# Altium footprint library DFN65P200X200X80_HS-6N.PcbLib: 1 footprints
Each footprint in its own frame and in the unit in brackets; x right, y up, seen from the top. Pads: shape width x height; smd on the part's side, far side on the other; paste and mask are expansions set on the pad; w line width, h text height; cw(c..) or ccw(c..) is an arc to the next point about the centre after c.
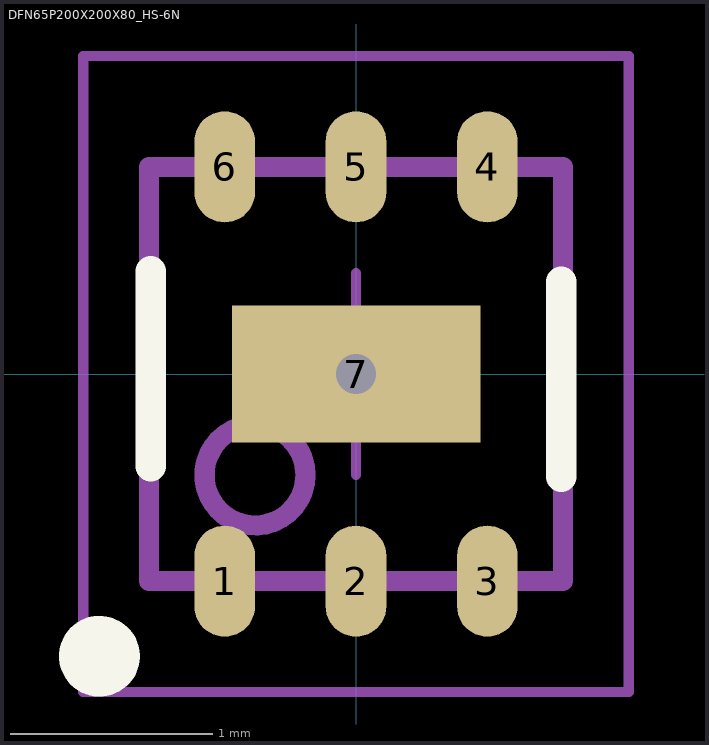
[diagram p0: the footprint, top view; thin cyan lines are the x and y axes]

## DFN65P200X200X80_HS-6N [mm]
height 0.8
pads (7):
  oval 0.3x0.55 smd: 1(-0.65,-1.025) 2(0,-1.025) 3(0.65,-1.025) 4(0.65,1.025) 5(0,1.025) 6(-0.65,1.025)
  rect 1.23x0.68 smd: 7(0,0)
via 0,0 diameter 0.4 hole 0.2
Top Overlay:
  circle w0.2: c-1.27,-1.397 r0.1
  lines w0.152: -1.016,-0.457 -1.016,0.508 ; 1.016,-0.508 1.016,0.457
Mechanical 13:
  circle w0.1: c-0.5,-0.5 r0.25
  lines w0.1: -1.025,-1.025 1.025,-1.025 1.025,1.025 -1.025,1.025 -1.025,-1.025
Mechanical 15:
  lines w0.05: -0.5,0 0.5,0 ; 0,-0.5 0,0.5 ; -1.35,-1.575 1.35,-1.575 1.35,1.575 -1.35,1.575 -1.35,-1.575
3D body: height 0.75, standoff 0, extent -1,-1.002 1,1.002